# EAGLE library part SK14D01G6 (library SK14D01G6)
Slide Switches SP4T 0.3 Amp at 30 V Source: Datasheet <https://www.arrow.com/en/products/sk14d01g6/ck>
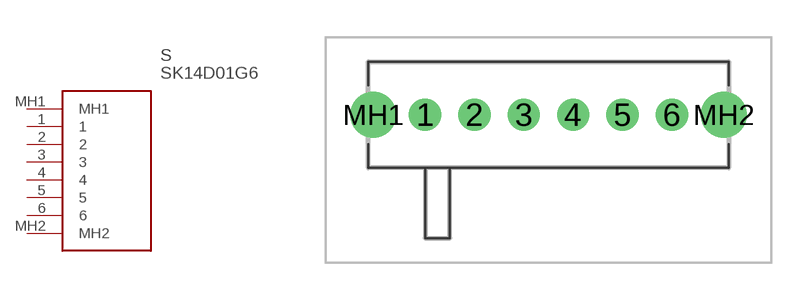
[diagram p0: symbol with the pads of SK14D01G6; footprint SK14D01G6]

Designator prefix S

## SK14D01G6 (Arrow_Part_Number: SK14D01G6; Arrow_Price-Stock: https://www.arrow.com/en/products/sk14d01g6/ck; Description: Slide Switches SP4T 0.3 Amp at 30 V; Height: 4.7mm; Manufacturer_Name: C & K COMPONENTS; Manufacturer_Part_Number: SK14D01G6; Mouser_Part_Number: 611-SK-14D01-G6; Mouser_Price-Stock: https://www.mouser.co.uk/ProductDetail/CK/SK14D01G6?qs=Gufeu08L%2Fl0F1TW9qwgs0A%3D%3D)  [SK14D01G6]
1  1
2  2
3  3
4  4
5  5
6  6
MH1  MH1
MH2  MH2

## Footprint SK14D01G6 (pad centres in mm)
SK14D01G6-2
drill 0.8 pad 1.3: 1 0,0; 2 2,0; 3 4,0; 4 6,0; 5 8,0; 6 10,0
drill 1.25 pad 1.875: MH1 -2.1,0; MH2 12.1,0